# Altium integrated library mod_x_cb.IntLib: 14 symbols
Pins are listed as number, name and electrical type; pins without a type are passive.

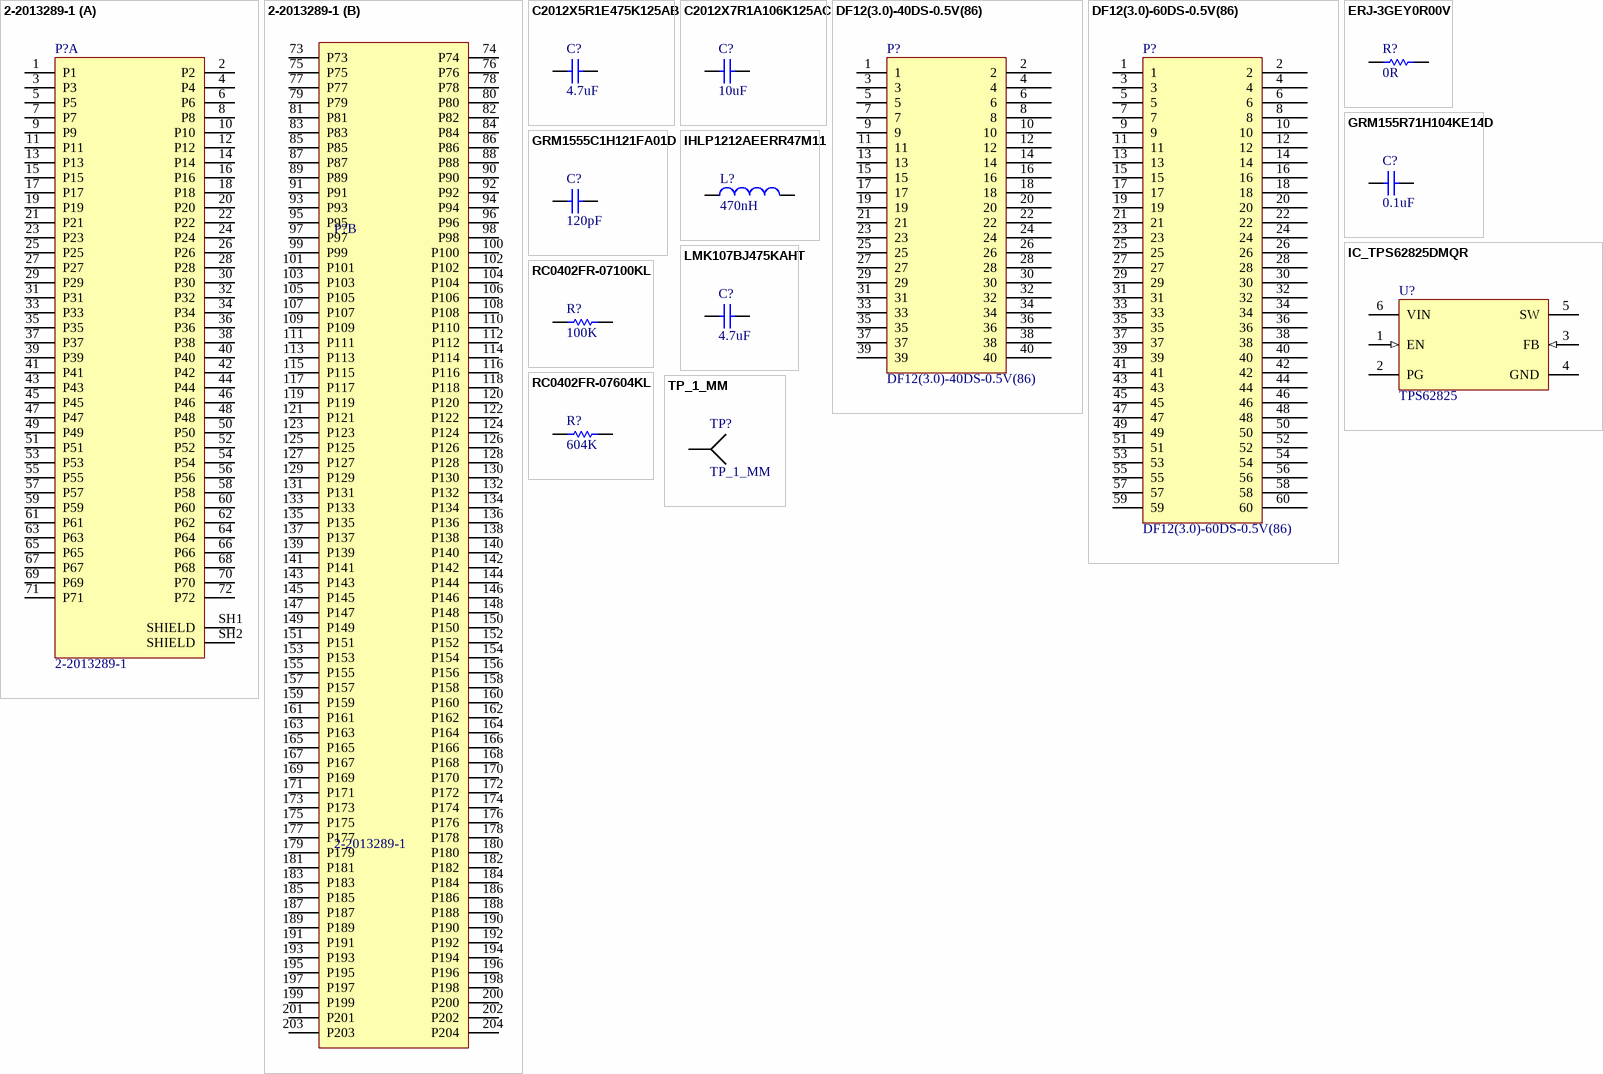
[diagram p0: symbols 2-2013289-1 to TP_1_MM]

## 2-2013289-1
designator P?
CONN SKT SODIMM 204POS SMD; Manufacturer 1: TE Connectivity; Body Material: Thermoplastic; Number of Contacts: 204; Memory Type: DDR,SDRAM; Gender: Female; PCB Mount Retention: With; Circuit Application: Power; Connector System: Cable-to-Board; Sealable: No (Without); Voltage Rating: 1.5V; Contact Current Rating: 500mA; Pitch: 0.024inch; Row Spacing: 0.322inch; Stack Height: 5.2mm; Supplier 1: Digi-Key; Manufacturer Part Number 1: 2-2013289-1; Stock 1: 1312; Pricing 1: 1=4.89, 10=4.688, 25=4.2808, 50=4.0768, 100=3.873 (USD); Mount: Surface Mount; Contact Material: Copper Alloy; Contact Plating: Gold; Housing Material: Thermoplastic; Housing Colour: Black; Insulation Material: Thermoplastic; Min Operating Temperature: -67°C; Max Operating Temperature: 185°C; Number of Rows: 2; Termination: Solder; Orientation: Right Angle; Package Quantity: 200; Packaging: Tape and Reel; Number of Positions: 204; Length: 71.5mm; Height: 5.2mm; Depth: 26.5mm; Radiation Hardening: No; Flammability Rating: UL94 V-0; Supplier Part Number 1: A116236CT-ND
footprint TE_2-2013289-1
part A pins: 1 P1, 2 P2, 3 P3, 4 P4, 5 P5, 6 P6, 7 P7, 8 P8, 9 P9, 10 P10, 11 P11, 12 P12, 13 P13, 14 P14, 15 P15, 16 P16, 17 P17, 18 P18, 19 P19, 20 P20, 21 P21, 22 P22, 23 P23, 24 P24, 25 P25, 26 P26, 27 P27, 28 P28, 29 P29, 30 P30, 31 P31, 32 P32, 33 P33, 34 P34, 35 P35, 36 P36, 37 P37, 38 P38, 39 P39, 40 P40, 41 P41, 42 P42, 43 P43, 44 P44, 45 P45, 46 P46, 47 P47, 48 P48, 49 P49, 50 P50, 51 P51, 52 P52, 53 P53, 54 P54, 55 P55, 56 P56, 57 P57, 58 P58, 59 P59, 60 P60, 61 P61, 62 P62, 63 P63, 64 P64, 65 P65, 66 P66, 67 P67, 68 P68, 69 P69, 70 P70, 71 P71, 72 P72, SH1 SHIELD, SH2 SHIELD
part B pins: 73 P73, 74 P74, 75 P75, 76 P76, 77 P77, 78 P78, 79 P79, 80 P80, 81 P81, 82 P82, 83 P83, 84 P84, 85 P85, 86 P86, 87 P87, 88 P88, 89 P89, 90 P90, 91 P91, 92 P92, 93 P93, 94 P94, 95 P95, 96 P96, 97 P97, 98 P98, 99 P99, 100 P100, 101 P101, 102 P102, 103 P103, 104 P104, 105 P105, 106 P106, 107 P107, 108 P108, 109 P109, 110 P110, 111 P111, 112 P112, 113 P113, 114 P114, 115 P115, 116 P116, 117 P117, 118 P118, 119 P119, 120 P120, 121 P121, 122 P122, 123 P123, 124 P124, 125 P125, 126 P126, 127 P127, 128 P128, 129 P129, 130 P130, 131 P131, 132 P132, 133 P133, 134 P134, 135 P135, 136 P136, 137 P137, 138 P138, 139 P139, 140 P140, 141 P141, 142 P142, 143 P143, 144 P144, 145 P145, 146 P146, 147 P147, 148 P148, 149 P149, 150 P150, 151 P151, 152 P152, 153 P153, 154 P154, 155 P155, 156 P156, 157 P157, 158 P158, 159 P159, 160 P160, 161 P161, 162 P162, 163 P163, 164 P164, 165 P165, 166 P166, 167 P167, 168 P168, 169 P169, 170 P170, 171 P171, 172 P172, 173 P173, 174 P174, 175 P175, 176 P176, 177 P177, 178 P178, 179 P179, 180 P180, 181 P181, 182 P182, 183 P183, 184 P184, 185 P185, 186 P186, 187 P187, 188 P188, 189 P189, 190 P190, 191 P191, 192 P192, 193 P193, 194 P194, 195 P195, 196 P196, 197 P197, 198 P198, 199 P199, 200 P200, 201 P201, 202 P202, 203 P203, 204 P204

## C2012X5R1E475K125AB
designator C?, comment 4.7uF
CAP CER 4.7UF 25V X5R 0805; Manufacturer 1: TDK; Manufacturer Part Number 1: C2012X5R1E475K125AB; Dielectric Material: Ceramic; Tolerance: 10%; Supplier 1: Digi-Key; Stock 1: 20000; Pricing 1: 1=0.38, 10=0.259, 100=0.1466, 500=0.1035, 1000=0.09056 (USD); Mount: Surface Mount; Case/Package: 0805; Number of Pins: 2; Weight: 0.000194oz; Case Code (Imperial): 0805; Case Code (Metric): 2012; Min Operating Temperature: -55°C; Max Operating Temperature: 85°C; Capacitance: 4.7uF; Dielectric: X5R; Voltage Rating: 25V; Voltage Rating (DC): 25V; Packaging: Tape and Reel; Package Quantity: 1; Termination: SMD/SMT; Composition: Ceramic; Voltage: 25V; Length: 2mm; Height: 1.25mm; Depth: 1.25mm; Width: 1.25mm; Thickness: 0.057inch; Radiation Hardening: No; REACH SVHC: No SVHC; Lead Free: Lead Free; ComponentLink1URL: https://datasheet.ciiva.com/24216/tdkmlcccaprange-24216480.pdf; ComponentLink1Description: https://datasheet.ciiva.com/24216/tdkmlcccaprange-24216480.pdf; ComponentLink2URL: https://datasheet.ciiva.com/11788/0900766b80c1bb00-11788107.pdf; ComponentLink2Description: https://datasheet.ciiva.com/11788/0900766b80c1bb00-11788107.pdf; ComponentLink3URL: https://datasheet.ciiva.com/36857/1796654-36857301.pdf; ComponentLink3Description: https://datasheet.ciiva.com/36857/1796654-36857301.pdf; ComponentLink4URL: https://datasheet.ciiva.com/22773/1571323-22773430.pdf; ComponentLink4Description: https://datasheet.ciiva.com/22773/1571323-22773430.pdf; ComponentLink5URL: https://datasheet.ciiva.com/6251/tdkmlcccaprange-6251817.pdf; ComponentLink5Description: https://datasheet.ciiva.com/6251/tdkmlcccaprange-6251817.pdf; ComponentLink6URL: https://datasheet.ciiva.com/22676/1571323-22676937.pdf; ComponentLink6Description: https://datasheet.ciiva.com/22676/1571323-22676937.pdf; ComponentLink7URL: https://datasheet.ciiva.com/6251/tdkmlcccaprange-6251820.pdf; ComponentLink7Description: https://datasheet.ciiva.com/6251/tdkmlcccaprange-6251820.pdf; ComponentLink8URL: https://datasheet.ciiva.com/28602/1744655-28602173.pdf; ComponentLink8Description: https://datasheet.ciiva.com/28602/1744655-28602173.pdf; ComponentLink9URL: https://datasheet.ciiva.com/6251/tdkmlcccaprange-6251823.pdf; ComponentLink9Description: https://datasheet.ciiva.com/6251/tdkmlcccaprange-6251823.pdf; ComponentLink10URL: https://datasheet.ciiva.com/16449/e412-c-16449599.pdf; ComponentLink10Description: https://datasheet.ciiva.com/16449/e412-c-16449599.pdf; Supplier Part Number 1: 445-4116-1-ND
footprint CAPC2012N (Chip Capacitor, Body 2.0x1.3mm, IPC Medium Density)
pins: 1, 2

## C2012X7R1A106K125AC
designator C?, comment 10uF
CAP CER 10UF 10V X7R 0805; Manufacturer 1: TDK; Manufacturer Part Number 1: C2012X7R1A106K125AC; Dielectric Material: Ceramic; Tolerance: 10%; Supplier 1: Digi-Key; Stock 1: 20000; Pricing 1: 1=0.52, 10=0.359, 100=0.2156, 500=0.16172, 1000=0.13656 (USD); Mount: Surface Mount; Case/Package: 0805; Number of Pins: 2; Weight: 0.000194oz; Case Code (Metric): 2012; Case Code (Imperial): 0805; Contact Plating: Matte,Tin; Min Operating Temperature: -55°C; Max Operating Temperature: 125°C; Capacitance: 10uF; Dielectric: X7R; Voltage Rating: 10V; Packaging: Tape and Reel; Voltage Rating (DC): 10V; Termination: SMD/SMT; Package Quantity: 1; Composition: Ceramic; Voltage: 10V; Length: 2mm; Height: 1.25mm; Width: 0.049inch; Depth: 1.25mm; Thickness: 0.057inch; Radiation Hardening: No; Lead Free: Lead Free; REACH SVHC: No SVHC; Supplier Part Number 1: 445-6857-1-ND
footprint CAPC2012N (Chip Capacitor, Body 2.0x1.3mm, IPC Medium Density)
pins: 1, 2

## DF12(3.0)-40DS-0.5V(86)
designator P?
CONN RECEPT 40POS 3MM SMD 0.5MM; Manufacturer 1: Hirose; Number of Contacts: 40; Current Rating: 300mA; Voltage Rating: 50V; Gender: Receptacle; Contact Resistance: 50mR; Row Spacing: 2.4mm; Supplier 1: Digi-Key; Manufacturer Part Number 1: DF12(3.0)-40DS-0.5V(86); Stock 1: 9904; Pricing 1: 1=1.44, 10=1.262, 25=1.188, 50=1.1386, 100=1.089, 250=0.99, 500=0.891 (USD); Mount: Surface Mount; Contact Plating: Gold; Contact Material: Copper; Housing Colour: Beige; Housing Material: Polyamide; Insulation Material: Nylon; Min Operating Temperature: -45°C; Max Operating Temperature: 125°C; Number of Rows: 2; Termination: SMD/SMT; Packaging: Tape and Reel; Package Quantity: 1000; Number of Positions: 40; Orientation: Straight; Connector Type: Receptacle; Max Current Rating: 300mA; Max Voltage Rating (AC): 50V; Length: 13mm; Pitch: 0.5mm; Mated Stacking Heights: 3mm; Stack Height: 3mm; Depth: 3.6mm; Radiation Hardening: No; Lead Free: Lead Free; Flammability Rating: UL94 V-0; REACH SVHC: No SVHC; Supplier Part Number 1: H11706CT-ND
footprint DF12-40
pins: 1, 2, 3, 4, 5, 6, 7, 8, 9, 10, 11, 12, 13, 14, 15, 16, 17, 18, 19, 20, 21, 22, 23, 24, 25, 26, 27, 28, 29, 30, 31, 32, 33, 34, 35, 36, 37, 38, 39, 40

## DF12(3.0)-60DS-0.5V(86)
designator P?
CONN RECEPT 60POS 3MM SMD 0.5MM; Manufacturer 1: Hirose; Number of Contacts: 60; Current Rating: 300mA; Voltage Rating: 50V; Gender: Receptacle; Contact Resistance: 50mR; Mating Cycles: 50; Insulation Resistance: 500MR; Row Spacing: 2.4mm; Supplier 1: Digi-Key; Manufacturer Part Number 1: DF12(3.0)-60DS-0.5V(86); Stock 1: 7229; Pricing 1: 1=1.87, 10=1.698, 25=1.594, 50=1.5246, 100=1.4553, 250=1.31672, 500=1.21276 (USD); Mount: Surface Mount; Contact Plating: Gold; Contact Material: Copper,Copper Alloy; Housing Colour: Beige; Housing Material: Polyamide; Insulation Material: Nylon; Colour: Beige; Min Operating Temperature: -45°C; Max Operating Temperature: 125°C; Number of Rows: 2; Termination: Solder; Packaging: Tape and Reel; Package Quantity: 1; Number of Positions: 60; Orientation: Straight; Max Current Rating: 300mA; Max Voltage Rating (AC): 50V; Voltage Rating (AC): 50V; Connector Type: Receptacle; Length: 18mm; Pitch: 0.5mm; Stack Height: 3mm; Mated Stacking Heights: 3mm; Depth: 3.6mm; Lead Pitch: 0.5mm; Width: 18mm; Radiation Hardening: No; Flammability Rating: UL94 V-0; REACH SVHC: No SVHC; Lead Free: Lead Free; Supplier Part Number 1: H5207CT-ND
footprint DF12-60
pins: 1, 2, 3, 4, 5, 6, 7, 8, 9, 10, 11, 12, 13, 14, 15, 16, 17, 18, 19, 20, 21, 22, 23, 24, 25, 26, 27, 28, 29, 30, 31, 32, 33, 34, 35, 36, 37, 38, 39, 40, 41, 42, 43, 44, 45, 46, 47, 48, 49, 50, 51, 52, 53, 54, 55, 56, 57, 58, 59, 60

## ERJ-3GEY0R00V
designator R?, comment 0R
RES SMD 0 OHM JUMPER 1/10W 0603; Manufacturer: Panasonic; Manufacturer Part Number: ERJ-3GEY0R00V; Resistance: 0mR; Power Rating: 100mW; Voltage Rating: 75V; Tolerance: 0%; Temperature Coefficient: 600ppm/°C; Voltage Rating (DC): 50V; Supplier 1: Digi-Key; Stock 1: 17095467; Pricing 1: 1=0.1, 10=0.053, 25=0.038, 50=0.029, 100=0.0214, 250=0.01632, 500=0.01306, 1000=0.00962 (USD); Mount: Surface Mount; Case/Package: 0603; Contact Plating: Tin; Case Code (Metric): 1608; Case Code (Imperial): 0603; Min Operating Temperature: -55°C; Max Operating Temperature: 155°C; Composition: Thick Film; Packaging: Tape and Reel; Package Quantity: 1; Number of Terminations: 2; Termination: SMD/SMT; Military Standard: Not; Max Power Dissipation: 100mW; Features: Automotive AEC-Q200; Length: 1.6mm; Height: 0.45mm; Width: 0.031inch; Depth: 0.8mm; Radiation Hardening: No; REACH SVHC: No SVHC; Lead Free: Lead Free; ComponentLink1URL: https://datasheet.ciiva.com/27055/1935748-27055113.pdf; ComponentLink1Description: https://datasheet.ciiva.com/27055/1935748-27055113.pdf; ComponentLink2URL: https://datasheet.ciiva.com/11808/0900766b80f806dd-11808207.pdf; ComponentLink2Description: https://datasheet.ciiva.com/11808/0900766b80f806dd-11808207.pdf; ComponentLink3URL: https://datasheet.ciiva.com/48532/aoa0000ce1-48532165.pdf; ComponentLink3Description: https://datasheet.ciiva.com/48532/aoa0000ce1-48532165.pdf; ComponentLink4URL: https://datasheet.ciiva.com/43460/1678796-43460647.pdf; ComponentLink4Description: https://datasheet.ciiva.com/43460/1678796-43460647.pdf; ComponentLink5URL: https://datasheet.ciiva.com/28695/1678796-28695833.pdf; ComponentLink5Description: https://datasheet.ciiva.com/28695/1678796-28695833.pdf; ComponentLink6URL: https://datasheet.ciiva.com/5959/1678796-5959707.pdf; ComponentLink6Description: https://datasheet.ciiva.com/5959/1678796-5959707.pdf; ComponentLink7URL: https://datasheet.ciiva.com/16834/aoa0000ce1-16834828.pdf; ComponentLink7Description: https://datasheet.ciiva.com/16834/aoa0000ce1-16834828.pdf; ComponentLink8URL: https://datasheet.ciiva.com/17215/aoa0000ce1-17215388.pdf; ComponentLink8Description: https://datasheet.ciiva.com/17215/aoa0000ce1-17215388.pdf; ComponentLink9URL: https://datasheet.ciiva.com/46377/1678796-46377868.pdf; ComponentLink9Description: https://datasheet.ciiva.com/46377/1678796-46377868.pdf; ComponentLink10URL: https://datasheet.ciiva.com/30199/4aoa0000ce1-30199822.pdf; ComponentLink10Description: https://datasheet.ciiva.com/30199/4aoa0000ce1-30199822.pdf; ComponentLink11URL: https://datasheet.ciiva.com/9198/aoa0000ce1-9198975.pdf; ComponentLink11Description: https://datasheet.ciiva.com/9198/aoa0000ce1-9198975.pdf; ComponentLink12URL: https://datasheet.ciiva.com/16758/70255313-16758527.pdf; ComponentLink12Description: https://datasheet.ciiva.com/16758/70255313-16758527.pdf; Supplier Part Number 1: P0.0GCT-ND
footprint RESC1608N (Chip Resistor, Body 1.6x0.8mm, IPC Medium Density)
pins: 1, 2

## GRM155R71H104KE14D
designator C?, comment 0.1uF
CAP CER 0.1UF 50V X7R 0402; Manufacturer 1: Murata; Manufacturer Part Number 1: GRM155R71H104KE14D; Description 1: Cap Ceramic 0.1uF 50V X7R 10% SMD 0402 125C Paper T/R; Voltage Rating DC: 50 VDC; Tolerance: 10 %; Brand: Murata Electronics; Capacitance - nF: 100 nF; Capacitance - pF: 100000 pF; Class: Class 2; Type: General Purpose Ceramic Capacitors; Unit Weight: 0.000212 oz; Supplier 1: Digi-Key; Stock 1: 0; Pricing 1: 1=0.1, 10=0.022, 100=0.0099, 500=0.0071, 1000=0.0056, 2500=0.0051, 5000=0.0047 (USD); Product Category: Multilayer Ceramic Capacitors MLCC - SMD/SMT; RoHS: True; Capacitance: 0.1 uF; Dielectric: X7R; Case Code - in: 0402; Case Code - mm: 1005; Height: 0.5 mm; Maximum Operating Temperature: + 125 C; Minimum Operating Temperature: - 55 C; Product: General Type MLCCs; Series: GRM; Packaging: Reel; Length: 1 mm; Package / Case: 0402 (1005 metric); Factory Pack Quantity: 10000; Termination Style: SMD/SMT; Width: 0.5 mm; ComponentLink1URL: http://components.arrow.com/part/dataview/0323_07030614; ComponentLink1Description: http://components.arrow.com/part/dataview/0323_07030614; ComponentLink2URL: http://psearch.en.murata.com/capacitor/product/GRM155R71H104KE14%23.pdf; ComponentLink2Description: http://psearch.en.murata.com/capacitor/product/GRM155R71H104KE14%23.pdf; ComponentLink3URL: http://www.mouser.com/ds/2/281/c02e-2905.pdf; ComponentLink3Description: http://www.mouser.com/ds/2/281/c02e-2905.pdf; ComponentLink4URL: http://search.murata.co.jp/Ceramy/image/img/A01X/partnumbering_e_01.pdf; ComponentLink4Description: http://search.murata.co.jp/Ceramy/image/img/A01X/partnumbering_e_01.pdf; ComponentLink5URL: http://www.farnell.com/datasheets/2079156.pdf; ComponentLink5Description: http://www.farnell.com/datasheets/2079156.pdf; Supplier Part Number 1: 490-10700-1-ND
footprint CAPC1005N (Chip Capacitor, Body 1.0x0.5mm, IPC Medium Density)
pins: 1, 2

## GRM1555C1H121FA01D
designator C?, comment 120pF
CAP CER 120PF 50V C0G/NP0 0402; Manufacturer 1: Murata; Manufacturer Part Number 1: GRM1555C1H121FA01D; Description 1: Multilayer Ceramic Capacitors MLCC - SMD/SMT 0402 120pF 50volts 1%; Brand: Murata Electronics; Tolerance: 1 %; Dielectric: C0G (NP0); Case Height: 0.5 mm; Case Length: 1 mm; Temperature Coefficient / Code: +/- 30 PPM / C; Type: General Purpose MLCC; Material: Ceramic; Temperature Coefficient: 30ppm/°C; Supplier 1: Digi-Key; Stock 1: 154558; Pricing 1: 1=0.15, 10=0.107, 100=0.0501, 500=0.0351, 1000=0.0291, 2500=0.0271, 5000=0.0248 (USD); Voltage Rating: 50 V; Product Category: Multilayer Ceramic Capacitors MLCC - SMD/SMT; RoHS: Details; Capacitance: 120 pF; Voltage Rating DC: 50 V; Case Code - in: 0402; Case Code - mm: 1005; Minimum Operating Temperature: - 55 C; Maximum Operating Temperature: + 125 C; Product: General Type MLCCs; Case Width: 0.5 mm; Operating Temperature Range: - 55 C to + 125 C; Package / Case: 0402 (1005 metric); Packaging: Reel; Series: GRM; Factory Pack Quantity: 10000; Termination Style: SMD/SMT; Dimensions: 0.5 mm W x 1 mm L x 0.5 mm H; ComponentLink1URL: https://datasheet.ciiva.com/11617/c02e-11617455.pdf; ComponentLink1Description: https://datasheet.ciiva.com/11617/c02e-11617455.pdf; ComponentLink2URL: https://datasheet.ciiva.com/17451/c02e-17451502.pdf; ComponentLink2Description: https://datasheet.ciiva.com/17451/c02e-17451502.pdf; Supplier Part Number 1: 490-8182-1-ND; Supplier 2: Digi-Key; Manufacturer 2: Murata; Manufacturer Part Number 2: GRM1555C1H121JA01D; Stock 2: 100000; Pricing 2: 1=0.1, 10=0.065, 100=0.0289, 500=0.02066, 1000=0.01623, 2500=0.01475, 5000=0.01357 (USD); Mount: Surface Mount; Case/Package: 0402; Case Code (Imperial): 0402; Case Code (Metric): 1005; Min Operating Temperature: -55°C; Max Operating Temperature: 125°C; Voltage Rating (DC): 50V; Package Quantity: 1; Termination: SMD/SMT; Voltage: 50V; Length: 1mm; Height: 0.5mm; Width: 0.5mm; Thickness: 0.022inch; Depth: 0.5mm; Radiation Hardening: No; REACH SVHC: No SVHC; Lead Free: Lead Free; Supplier Part Number 2: 490-1292-1-ND
footprint CAPC1005N (Chip Capacitor, Body 1.0x0.5mm, IPC Medium Density)
pins: 1, 2

## IC_TPS62825DMQR
designator U?, comment TPS62825
IC STEP DOWN CONV 1-5V 2A QFN; Manufacturer 1: Texas Instruments; Manufacturer Part Number 1: TPS62825DMQR; Supplier 1: Digi-Key; Stock 1: 1427; Pricing 1: 1=1.56, 10=1.392, 100=1.085, 500=0.8963, 1000=0.70761 (USD); Supplier Part Number 1: 296-49521-1-ND
footprint DMQ0006A
pins: 1 EN (in), 2 PG (oc), 3 FB (in), 4 GND (power), 5 SW (power), 6 VIN (power)

## IHLP1212AEERR47M11
designator L?, comment 470nH
FIXED IND 470NH 6.7A 15 MOHM SMD; Manufacturer 1: Vishay Dale; Manufacturer Part Number 1: IHLP1212AEERR47M11; Core Material: Ferrite; Tolerance: 20%; Self Resonant Frequency: 1MHz; Shielding: Shielded; DC Resistance (DCR): 15mR; Test Frequency: 100kHz; Supplier 1: Digi-Key; Stock 1: 27366; Pricing 1: 1=1.41, 10=1.308, 100=0.9459, 500=0.7245, 1000=0.644 (USD); Mount: Surface Mount; Case/Package: 1212; Number of Pins: 2; Min Operating Temperature: -55°C; Max Operating Temperature: 125°C; Packaging: Tape and Reel; Inductance Tolerance: 20%; Package Quantity: 3000; Current Rating: 6.7A; Saturation Current: 6.7A; Inductance: 470nh; Max DC Current: 6.7A; Termination: SMD/SMT; RMS Current (Irms): 6.7A; Military Standard: Not; Length: 3.6mm; Height: 1.2mm; Width: 3mm; Height - Seated (Max): 0.059inch; Depth: 3.2mm; Radiation Hardening: No; REACH SVHC: Unknown; Lead Free: Lead Free; Supplier Part Number 1: 541-1330-1-ND
footprint IHLP-1212AE-11
pins: 1, 2

## LMK107BJ475KAHT
designator C?, comment 4.7uF
CAP CER 4.7UF 10V X5R 0603; Manufacturer 1: Taiyo Yuden; Manufacturer Part Number 1: LMK107BJ475KAHT; Tolerance: 10%; Supplier 1: Digi-Key; Stock 1: 148910; Pricing 1: 1=0.24, 10=0.166, 100=0.0839, 500=0.0574, 1000=0.0508 (USD); Mount: Surface Mount; Case/Package: 0603; Case Code (Metric): 1608; Case Code (Imperial): 0603; Min Operating Temperature: -55°C; Max Operating Temperature: 85°C; Capacitance: 4.7uF; Dielectric: X5R; Termination: SMD/SMT; Voltage Rating (DC): 10V; Packaging: Tape and Reel; Package Quantity: 4000; Voltage Rating: 10V; Length: 0.063inch; Height: 0.8mm; Width: 0.031inch; Thickness: 0.035inch; Lead Free: Lead Free; Halogen Free: Halogen Free; ComponentLink1URL: https://datasheet.ciiva.com/18697/mlcc01-hq-e-18697513.pdf; ComponentLink1Description: https://datasheet.ciiva.com/18697/mlcc01-hq-e-18697513.pdf; ComponentLink2URL: https://datasheet.ciiva.com/18697/mlcc01-hq-e-18697514.pdf; ComponentLink2Description: https://datasheet.ciiva.com/18697/mlcc01-hq-e-18697514.pdf; ComponentLink3URL: https://datasheet.ciiva.com/18697/mlcc01-hq-e-18697515.pdf; ComponentLink3Description: https://datasheet.ciiva.com/18697/mlcc01-hq-e-18697515.pdf; Supplier Part Number 1: 587-3416-1-ND
footprint CAPC1608N (Chip Capacitor, Body 1.6x0.8mm, IPC Medium Density)
pins: 1, 2

## RC0402FR-07100KL
designator R?, comment 100K
RES SMD 100K OHM 1% 1/16W 0402; Manufacturer 1: Yageo; Manufacturer Part Number 1: RC0402FR-07100KL; Resistance: 100 kOhms; Power Rating: 62.5 mW (1/16 W); Voltage Rating: 50 V; Temperature Coefficient: 100 PPM / C; Supplier 1: Digi-Key; Description 1: RES SMD 100K OHM 1% 1/16W 0402; Stock 1: 10691398; Pricing 1: 1=0.1, 10=0.014, 100=0.0056, 1000=0.0025, 2500=0.0022, 5000=0.0018 (USD); Termination Style: SMD/SMT; Product: Thick Film Resistors General Purpose; Tolerance: 1 %; Case Code - in: 0402; Case Code - mm: 1005; Series: RC; Operating Temperature Range: - 55 C to + 155 C; Packaging: Reel; ComponentLink1URL: https://datasheet.ciiva.com/11819/0900766b80c66297-11819452.pdf; ComponentLink1Description: https://datasheet.ciiva.com/11819/0900766b80c66297-11819452.pdf; ComponentLink2URL: https://datasheet.ciiva.com/16740/pyu-rc0402-51-rohs-l-6-r-16740567.pdf; ComponentLink2Description: https://datasheet.ciiva.com/16740/pyu-rc0402-51-rohs-l-6-r-16740567.pdf; ComponentLink3URL: https://datasheet.ciiva.com/12667/pyu-rc0402-51-rohs-l-6-r-12667930.pdf; ComponentLink3Description: https://datasheet.ciiva.com/12667/pyu-rc0402-51-rohs-l-6-r-12667930.pdf; ComponentLink4URL: https://datasheet.ciiva.com/2453/pyu-r-int-thick-7-2453361.pdf; ComponentLink4Description: https://datasheet.ciiva.com/2453/pyu-r-int-thick-7-2453361.pdf; ComponentLink5URL: https://datasheet.ciiva.com/15189/getdatasheetpartid-323696-15189334.pdf; ComponentLink5Description: https://datasheet.ciiva.com/15189/getdatasheetpartid-323696-15189334.pdf; ComponentLink6URL: https://datasheet.ciiva.com/2453/pyu-r-int-thick-7-2453362.pdf; ComponentLink6Description: https://datasheet.ciiva.com/2453/pyu-r-int-thick-7-2453362.pdf; ComponentLink7URL: https://datasheet.ciiva.com/2453/pyu-r-int-thick-7-2453363.pdf; ComponentLink7Description: https://datasheet.ciiva.com/2453/pyu-r-int-thick-7-2453363.pdf; ComponentLink8URL: https://datasheet.ciiva.com/22747/1018594-22747509.pdf; ComponentLink8Description: https://datasheet.ciiva.com/22747/1018594-22747509.pdf; Supplier Part Number 1: 311-100KLRCT-ND
footprint RESC1005N (Chip Resistor, Body 1.1x0.5mm, IPC Medium Density)
pins: 1, 2

## RC0402FR-07604KL
designator R?, comment 604K
RES SMD 604K OHM 1% 1/16W 0402; Manufacturer 1: Yageo; Manufacturer Part Number 1: RC0402FR-07604KL; Resistance: 604kR; Temperature Coefficient: 100ppm/°C; Power Rating: 62.5mW; Voltage Rating: 50V; Max Power Dissipation: 63mW; Supplier 1: Digi-Key; Stock 1: 119604; Pricing 1: 1=0.1, 10=0.022, 100=0.009, 1000=0.00402, 2500=0.00349, 5000=0.00288 (USD); Case/Package: 0402; Contact Plating: Lead,Matte,Tin; Case Code (Imperial): 0402; Case Code (Metric): 1005; Min Operating Temperature: -55°C; Max Operating Temperature: 155°C; Tolerance: 1%; Composition: Thick Film; Packaging: Tape and Reel; Termination: SMD/SMT; Number of Terminations: 2; Military Standard: Not; Voltage Rating (DC): 50V; Working Voltage: 50V; Features: Moisture Resistant; Length: 0.039inch; Height: 0.016inch; Width: 0.02inch; Depth: 0.5mm; Radiation Hardening: No; Lead Free: Lead Free; Supplier Part Number 1: YAG3198CT-ND
footprint RESC1005N (Chip Resistor, Body 1.1x0.5mm, IPC Medium Density)
pins: 1, 2

## TP_1_MM
designator TP?  (no BOM)
footprint TP_1_MM
pins: 1